# Altium schematic symbol library Resistor.SchLib: 616 symbols (part 3 of 3)
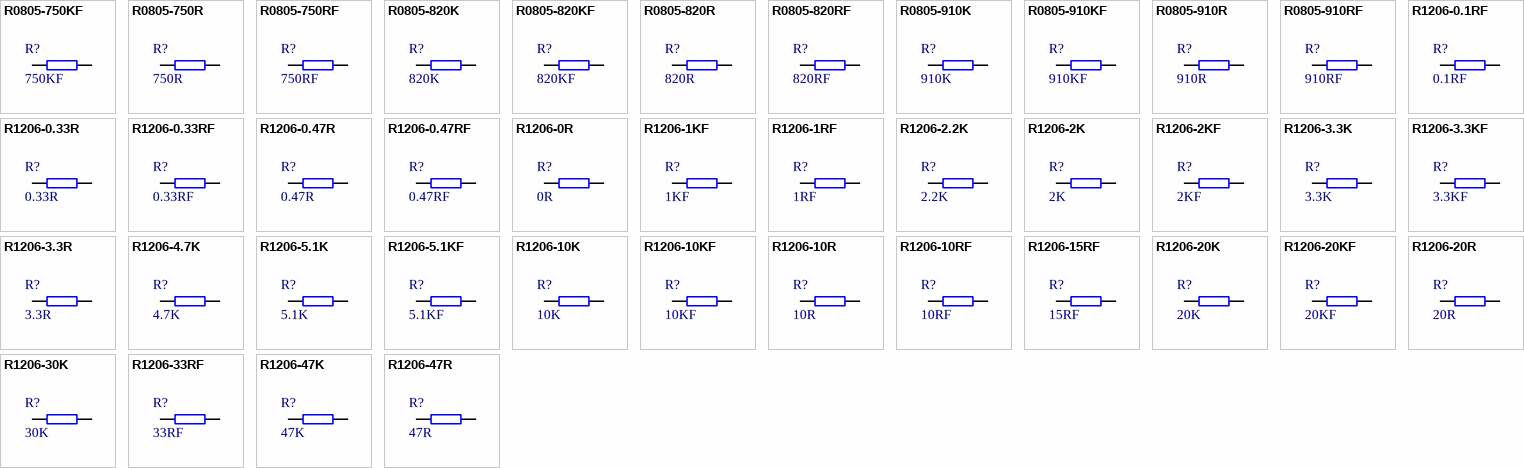
[diagram p17: symbols R0805-750KF to R1206-47R]

## R1206-2.2K
designator R?, comment 2.2K
贴片电阻-通用; 生产商: 厚声 国巨; 规格型号: 2.2K±5%_1/4W_±100ppm_R1206; 货品编码: 311012; 备注: *; 供应商: *
footprint R1206
pins: 1, 2

## R1206-2K
designator R?, comment 2K
贴片电阻-通用; 生产商: 厚声 国巨; 规格型号: 2K±5%_1/4W_±100ppm_R1206; 货品编码: 311061; 备注: *; 供应商: *
footprint R1206
pins: 1, 2

## R1206-2KF
designator R?, comment 2KF
贴片电阻-通用; 生产商: 厚声 国巨; 规格型号: 2K±1%_1/4W_±100ppm_R1206; 货品编码: 311121; 备注: *; 供应商: *
footprint R1206
pins: 1, 2

## R1206-3.3K
designator R?, comment 3.3K
贴片电阻-通用; 生产商: 厚声 国巨; 规格型号: 3.3K±5%_1/4W_±100ppm_R1206; 货品编码: 311118; 备注: *; 供应商: *
footprint R1206
pins: 1, 2

## R1206-3.3KF
designator R?, comment 3.3KF
贴片电阻-通用; 生产商: 厚声 国巨; 规格型号: 3.3K±1%_1/4W_±100ppm_R1206; 货品编码: 311094; 备注: *; 供应商: *
footprint R1206
pins: 1, 2

## R1206-3.3R
designator R?, comment 3.3R
贴片电阻-通用; 生产商: 厚声 国巨; 规格型号: 3.3R±5%_1/4W_±200ppm_R1206; 货品编码: 311119; 备注: *; 供应商: *
footprint R1206
pins: 1, 2

## R1206-4.7K
designator R?, comment 4.7K
贴片电阻-通用; 生产商: 厚声 国巨; 规格型号: 4.7K±5%_1/4W_±100ppm_R1206; 货品编码: 311062; 备注: *; 供应商: *
footprint R1206
pins: 1, 2

## R1206-5.1K
designator R?, comment 5.1K
贴片电阻-通用; 生产商: 厚声 国巨; 规格型号: 5.1K±5%_1/4W_±100ppm_R1206; 货品编码: 311063; 备注: *; 供应商: *
footprint R1206
pins: 1, 2

## R1206-5.1KF
designator R?, comment 5.1KF
贴片电阻-通用; 生产商: 厚声 国巨; 规格型号: 5.1K±1%_1/4W_±100ppm_R1206; 货品编码: 311145; 备注: *; 供应商: *
footprint R1206
pins: 1, 2

## R1206-10K
designator R?, comment 10K
贴片电阻-通用; 生产商: 厚声 国巨; 规格型号: 10K±5%_1/4W_±100ppm_R1206; 货品编码: 311038; 备注: *; 供应商: *
footprint R1206
pins: 1, 2

## R1206-10KF
designator R?, comment 10KF
贴片电阻-通用; 生产商: 厚声 国巨; 规格型号: 10K±1%_1/4W_±100ppm_R1206; 货品编码: 311015; 备注: *; 供应商: *
footprint R1206
pins: 1, 2

## R1206-10R
designator R?, comment 10R
贴片电阻-通用; 生产商: 厚声 国巨; 规格型号: 10R±5%_1/4W_±200ppm_R1206; 货品编码: 311071; 备注: *; 供应商: *
footprint R1206
pins: 1, 2

## R1206-10RF
designator R?, comment 10RF
贴片电阻-通用; 生产商: 厚声 国巨; 规格型号: 10R±1%_1/4W_±200ppm_R1206; 货品编码: 311110; 备注: *; 供应商: *
footprint R1206
pins: 1, 2

## R1206-15RF
designator R?, comment 15RF
贴片电阻-通用; 生产商: 厚声 国巨; 规格型号: 15R±1%_1/4W_±200ppm_R1206; 货品编码: 311106; 备注: *; 供应商: *
footprint R1206
pins: 1, 2

## R1206-20K
designator R?, comment 20K
贴片电阻-通用; 生产商: 厚声 国巨; 规格型号: 20K±5%_1/4W_±100ppm_R1206; 货品编码: 311064; 备注: *; 供应商: *
footprint R1206
pins: 1, 2

## R1206-20KF
designator R?, comment 20KF
贴片电阻-通用; 生产商: 厚声 国巨; 规格型号: 20K±1%_1/4W_±100ppm_R1206; 货品编码: 311065; 备注: *; 供应商: *
footprint R1206
pins: 1, 2

## R1206-20R
designator R?, comment 20R
贴片电阻-通用; 生产商: 厚声 国巨; 规格型号: 20R±5%_1/4W_±100ppm_R1206; 货品编码: 311070; 备注: *; 供应商: *
footprint R1206
pins: 1, 2

## R1206-30K
designator R?, comment 30K
贴片电阻-通用; 生产商: 厚声 国巨; 规格型号: 30K±5%_1/4W_±100ppm_R1206; 货品编码: 311066; 备注: *; 供应商: *
footprint R1206
pins: 1, 2

## R1206-33RF
designator R?, comment 33RF
贴片电阻-通用; 规格型号: 33R±1%_1/4W_±200ppm_R1206; 货品编码: 311148; 生产商: 厚声 国巨; 备注: *; 供应商: *
footprint R1206
pins: 1, 2

## R1206-47K
designator R?, comment 47K
贴片电阻-通用; 生产商: 厚声 国巨; 规格型号: 47K±5%_1/4W_±100ppm_R1206; 货品编码: 311067; 备注: *; 供应商: *
footprint R1206
pins: 1, 2

## R1206-47R
designator R?, comment 47R
贴片电阻-通用; 生产商: 厚声 国巨; 规格型号: 47R±5%_1/4W_±100ppm_R1206; 货品编码: 311072; 备注: *; 供应商: *
footprint R1206
pins: 1, 2

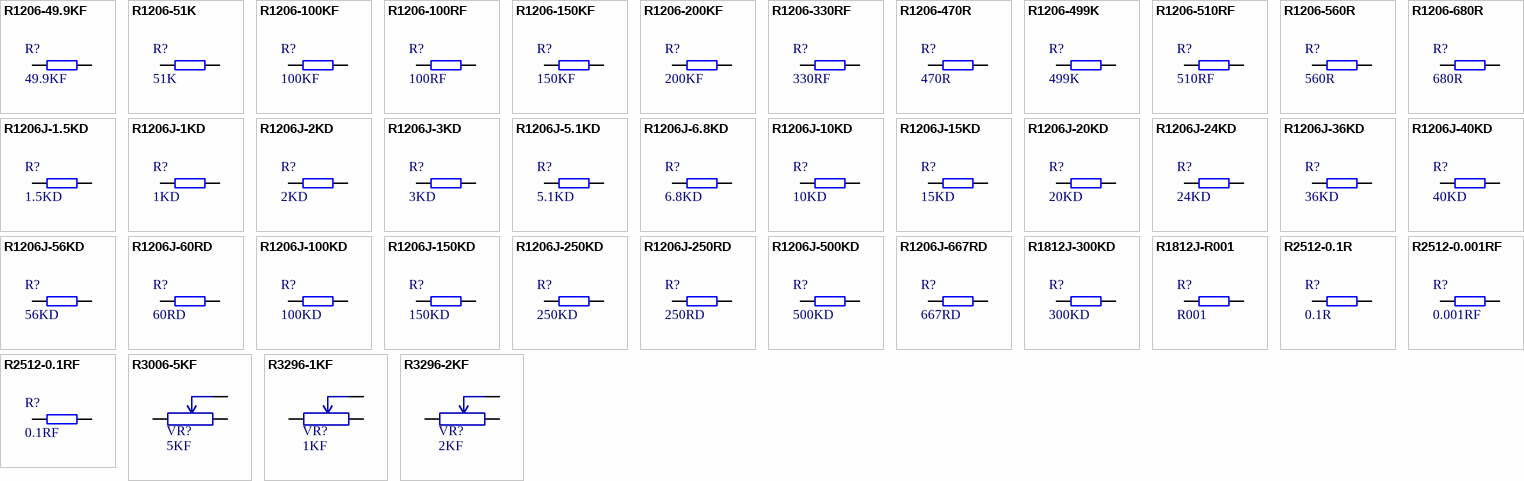
[diagram p14: symbols R1206-49.9KF to R3296-2KF]

## R1206-49.9KF
designator R?, comment 49.9KF
贴片电阻-通用; 生产商: 厚声 国巨; 规格型号: 49.9K±1%_1/4W_±100ppm_R1206; 货品编码: 311034; 备注: *; 供应商: *
footprint R1206
pins: 1, 2

## R1206-51K
designator R?, comment 51K
贴片电阻-通用; 生产商: 厚声 国巨; 规格型号: 51K±5%_1/4W_±100ppm_R1206; 货品编码: 311101; 备注: *; 供应商: *
footprint R1206
pins: 1, 2

## R1206-100KF
designator R?, comment 100KF
贴片电阻-通用; 生产商: 厚声 国巨; 规格型号: 100K±1%_1/4W_±100ppm_R1206; 货品编码: 311117; 备注: *; 供应商: *
footprint R1206
pins: 1, 2

## R1206-100RF
designator R?, comment 100RF
贴片电阻-通用; 生产商: 厚声 国巨; 规格型号: 100R±1%_1/4W_±100ppm_R1206; 货品编码: 311114; 备注: *; 供应商: *
footprint R1206
pins: 1, 2

## R1206-150KF
designator R?, comment 150KF
贴片电阻-通用; 生产商: 厚声 国巨; 规格型号: 150K±1%_1/4W_±100ppm_R1206; 货品编码: 311128; 备注: *; 供应商: *
footprint R1206
pins: 1, 2

## R1206-200KF
designator R?, comment 200KF
贴片电阻-通用; 生产商: 厚声 国巨; 规格型号: 200K±1%_1/4W_±100ppm_R1206; 货品编码: 311113; 备注: *; 供应商: *
footprint R1206
pins: 1, 2

## R1206-330RF
designator R?, comment 330RF
贴片电阻-通用; 生产商: 厚声 国巨; 规格型号: 330R±1%_1/4W_±100ppm_R1206; 货品编码: 311144; 备注: *; 供应商: *
footprint R1206
pins: 1, 2

## R1206-470R
designator R?, comment 470R
贴片电阻-通用; 生产商: 厚声 国巨; 规格型号: 470R±5%_1/4W_±100ppm_R1206; 货品编码: 311073; 备注: *; 供应商: *
footprint R1206
pins: 1, 2

## R1206-499K
designator R?, comment 499K
贴片电阻-通用; 生产商: 厚声 国巨; 规格型号: 499K±5%_1/4W_±100ppm_R1206; 货品编码: 311068; 备注: *; 供应商: *
footprint R1206
pins: 1, 2

## R1206-510RF
designator R?, comment 510RF
贴片电阻-通用; 生产商: 厚声 国巨; 规格型号: 510R±1%_1/4W_±100ppm_R1206; 货品编码: 无样品无编码; 备注: *; 供应商: *
footprint R1206
pins: 1, 2

## R1206-560R
designator R?, comment 560R
贴片电阻-通用; 生产商: 厚声 国巨; 规格型号: 560R±5%_1/4W_±100ppm_R1206; 货品编码: 311074; 备注: *; 供应商: *
footprint R1206
pins: 1, 2

## R1206-680R
designator R?, comment 680R
贴片电阻-通用; 生产商: 厚声 国巨; 规格型号: 680R±5%_1/4W_±100ppm_R1206; 货品编码: 311007; 备注: *; 供应商: *
footprint R1206
pins: 1, 2

## R1206J-1.5KD
designator R?, comment 1.5KD
贴片电阻-晶圆; 生产商: 厚声 国巨; 规格型号: 1.5K±0.5%_1/4W_±100ppm_R1206; 货品编码: 311082; 备注: *; 供应商: *
footprint R1206
pins: 1, 2

## R1206J-1KD
designator R?, comment 1KD
贴片电阻-晶圆; 生产商: 厚声  国巨; 规格型号: 1K±0.5%_1/4W_±100ppm_R1206; 货品编码: 311081; 备注: *; 供应商: *
footprint R1206
pins: 1, 2

## R1206J-2KD
designator R?, comment 2KD
贴片电阻-晶圆; 生产商: 厚声 国巨; 规格型号: 2K±0.5%_1/4W_±100ppm_R1206; 货品编码: 311087; 备注: *; 供应商: *
footprint R1206
pins: 1, 2

## R1206J-3KD
designator R?, comment 3KD
贴片电阻-晶圆; 生产商: 厚声 国巨; 规格型号: 3K±0.5%_1/4W_±100ppm_R1206; 货品编码: 311083; 备注: *; 供应商: *
footprint R1206
pins: 1, 2

## R1206J-5.1KD
designator R?, comment 5.1KD
贴片电阻-晶圆; 生产商: 厚声 国巨; 规格型号: 5.1K±0.5%_1/4W_±100ppm_R1206; 货品编码: 311084; 备注: *; 供应商: *
footprint R1206
pins: 1, 2

## R1206J-6.8KD
designator R?, comment 6.8KD
贴片电阻-晶圆; 生产商: 厚声 国巨; 规格型号: 6.8K±0.5%_1/4W_±100ppm_R1206; 货品编码: 311085; 备注: *; 供应商: *
footprint R1206
pins: 1, 2

## R1206J-10KD
designator R?, comment 10KD
贴片电阻-晶圆; 生产商: 厚声 国巨; 规格型号: 10K±0.5%_1/4W_±50ppm_R1206; 货品编码: 311152; 备注: *; 供应商: *
footprint R1206
pins: 1, 2

## R1206J-15KD
designator R?, comment 15KD
贴片电阻-晶圆; 生产商: 厚声 国巨; 规格型号: 15K±0.5%_1/4W_±100ppm_R1206; 货品编码: 311105; 备注: *; 供应商: *
footprint R1206
pins: 1, 2

## R1206J-20KD
designator R?, comment 20KD
贴片电阻-晶圆; 生产商: 厚声 国巨; 规格型号: 20K±0.5%_1/4W_±50ppm_R1206; 货品编码: 311135; 备注: *; 供应商: *
footprint R1206
pins: 1, 2

## R1206J-24KD
designator R?, comment 24KD
贴片电阻-晶圆; 生产商: 厚声 国巨; 规格型号: 24K±0.5%_1/4W_±100ppm_R1206; 货品编码: 311088; 备注: *; 供应商: *
footprint R1206
pins: 1, 2

## R1206J-36KD
designator R?, comment 36KD
贴片电阻-晶圆; 生产商: 厚声 国巨; 规格型号: 36K±0.5%_1/4W_±100ppm_R1206; 货品编码: 311089; 备注: *; 供应商: *
footprint R1206
pins: 1, 2

## R1206J-40KD
designator R?, comment 40KD
贴片电阻-晶圆; 生产商: 厚声 国巨; 规格型号: 40K±0.5%_1/4W_±100ppm_R1206; 货品编码: 312117; 备注: *; 供应商: *
footprint R1206
pins: 1, 2

## R1206J-56KD
designator R?, comment 56KD
贴片电阻-晶圆; 生产商: 厚声 国巨; 规格型号: 56K±0.5%_1/4W_±50ppm_R1206; 货品编码: 311090; 备注: *; 供应商: *
footprint R1206
pins: 1, 2

## R1206J-60RD
designator R?, comment 60RD
贴片电阻-晶圆; 生产商: 厚声 国巨; 规格型号: 60R±0.5%_1/4W_±50ppm_R1206; 货品编码: 311104; 备注: *; 供应商: *
footprint R1206
pins: 1, 2

## R1206J-100KD
designator R?, comment 100KD
贴片电阻-晶圆; 生产商: 厚声 国巨; 规格型号: 100K±0.5%_1/4W_±100ppm_R1206; 货品编码: 311091; 备注: *; 供应商: *
footprint R1206
pins: 1, 2

## R1206J-150KD
designator R?, comment 150KD
贴片电阻-晶圆; 生产商: 厚声 国巨; 规格型号: 150K±0.5%_1/4W_±100ppm_R1206; 货品编码: 311102; 备注: *; 供应商: *
footprint R1206
pins: 1, 2

## R1206J-250KD
designator R?, comment 250KD
贴片电阻-晶圆; 生产商: 厚声 国巨; 规格型号: 250K±0.5%_1/4W_±100ppm_R1206; 货品编码: 无样品无编码; 备注: *; 供应商: *
footprint R1206
pins: 1, 2

## R1206J-250RD
designator R?, comment 250RD
贴片电阻-晶圆; 生产商: 厚声 国巨; 规格型号: 250R±0.5%_1/4W_±100ppm_R1206; 货品编码: 无样品无编码; 备注: *; 供应商: *
footprint R1206
pins: 1, 2

## R1206J-500KD
designator R?, comment 500KD
贴片电阻-晶圆; 生产商: 厚声 国巨; 规格型号: 500K±0.5%_1/4W_±100ppm_R1206; 货品编码: 311150; 备注: *; 供应商: *
footprint R1206
pins: 1, 2

## R1206J-667RD
designator R?, comment 667RD
贴片电阻-晶圆; 生产商: 厚声 国巨; 规格型号: 667R±0.5%_1/4W_±100ppm_R1206; 货品编码: 311080; 备注: *; 供应商: *
footprint R1206
pins: 1, 2

## R1812J-300KD
designator R?, comment 300KD
贴片电阻-晶圆; 生产商: 厚声 国巨; 规格型号: 300K±0.5%_1/4W_±100ppm_R1812; 货品编码: 312118; 备注: *; 供应商: *
footprint R1812 (Footprint not found)
pins: 1, 2

## R1812J-R001
designator R?, comment R001
贴片电阻-通用; 生产商: 厚声 国巨; 规格型号: 0.001R±0.5%_1/2W_±100ppm_R1812; 货品编码: 无样品无编码; 备注: *; 供应商: *
footprint R1812 (Footprint not found)
pins: 1, 2

## R2512-0.1R
designator R?, comment 0.1R
贴片电阻-通用; 生产商: 厚声 国巨; 规格型号: 0.1R±5%_1W_±200ppm_R2512; 货品编码: 311077; 备注: *; 供应商: *
footprint R2512
pins: 1, 2

## R2512-0.001RF
designator R?, comment 0.001RF
贴片电阻-通用; 生产商: 厚声 国巨; 规格型号: 0.001R±1%_1W_±200ppm_R2512; 货品编码: 311151; 备注: *; 供应商: *
footprint R2512
pins: 1, 2

## R2512-0.1RF
designator R?, comment 0.1RF
贴片电阻-通用; 生产商: 厚声 国巨; 规格型号: 0.1R±1%_1W_±200ppm_R2512; 货品编码: 无样品无编码; 备注: *; 供应商: *
footprint R2512
pins: 1, 2

## R3006-5KF
designator VR?, comment 5KF
精密可调电位器; 备注: 管装; 货品编码: 无样品无编码; 规格型号: 5K±1%_VR3006; 生产商: 风华 厚声
footprint VR3006
pins: 1, 2, 3

## R3296-1KF
designator VR?, comment 1KF
精密可调电位器; 备注: 管装; 货品编码: 352001; 规格型号: 1K±1%_VR3296W; 生产商: 风华 厚声
footprint VR3296W
pins: 1, 2, 3

## R3296-2KF
designator VR?, comment 2KF
精密可调电位器; 备注: 管装; 货品编码: 352007; 规格型号: 2K±1%_VR3296W; 生产商: 风华 厚声
footprint VR3296W
pins: 1, 2, 3

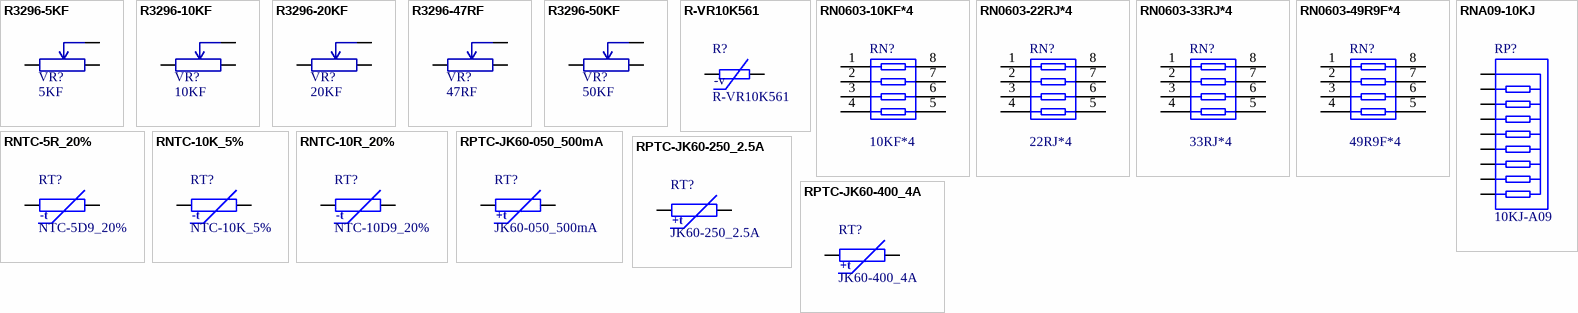
[diagram p15: symbols R3296-5KF to RPTC-JK60-400_4A]

## R3296-5KF
designator VR?, comment 5KF
精密可调电位器; 备注: 管装; 货品编码: 352002; 规格型号: 5K±1%_VR3296W; 生产商: 风华 厚声
footprint VR3296W
pins: 1, 2, 3

## R3296-10KF
designator VR?, comment 10KF
精密可调电位器; 备注: 管装; 货品编码: 352003; 规格型号: 10K±1%_VR3296W; 生产商: 风华 厚声
footprint VR3296W
pins: 1, 2, 3

## R3296-20KF
designator VR?, comment 20KF
精密可调电位器; 备注: 管装; 货品编码: 352004; 规格型号: 20K±1%_VR3296W; 生产商: 风华 厚声
footprint VR3296W
pins: 1, 2, 3

## R3296-47RF
designator VR?, comment 47RF
精密可调电位器; 备注: 管装; 货品编码: 352006; 规格型号: 47R±1%_VR3296W; 生产商: 风华 厚声
footprint VR3296W
pins: 1, 2, 3

## R3296-50KF
designator VR?, comment 50KF
精密可调电位器; 备注: 管装; 货品编码: 352005; 规格型号: 50K±1%_VR3296W; 生产商: 风华 厚声
footprint VR3296W
pins: 1, 2, 3

## R-VR10K561
designator R?
插件电阻-压敏; 货品编码: 312182; 供应商: *; 规格型号: *
footprint R-RAD0.3-11.43x3.81
footprint R-RAD0.3-11.43X3.81 (RAD0.3)
pins: 1, 2
text: -v

## RN0603-10KF*4
designator RN?, comment 10KF*4
贴片排阻0603; 规格型号: 10KF*4_RN0603-8P4R; 货品编码: 无样品无编码; 生产商: 风华; 供应商: *; 备注: *
footprint RN0603-8P4R (Footprint not found)
pins: 1, 2, 3, 4, 5, 6, 7, 8

## RN0603-22RJ*4
designator RN?, comment 22RJ*4
贴片排阻0603; 规格型号: 22RJ*4_RN0603-8P4R; 货品编码: 无样品无编码; 生产商: 风华; 供应商: *; 备注: *
footprint RN0603-8P4R (Footprint not found)
pins: 1, 2, 3, 4, 5, 6, 7, 8

## RN0603-33RJ*4
designator RN?, comment 33RJ*4
贴片排阻0603; 规格型号: 33RJ*4_RN0603-8P4R; 生产商: 风华; 货品编码: 无样品无编码; 供应商: *; 备注: *
footprint RN0603-8P4R (Footprint not found)
pins: 1, 2, 3, 4, 5, 6, 7, 8

## RN0603-49R9F*4
designator RN?, comment 49R9F*4
贴片排阻0603; 规格型号: 49R9F*4_RN0603-8P4R; 生产商: 风华; 货品编码: 无样品无编码; 供应商: *; 备注: *
footprint RN0603-8P4R (Footprint not found)
pins: 1, 2, 3, 4, 5, 6, 7, 8

## RNA09-10KJ
designator RP?, comment 10KJ-A09
插件电阻-排阻; 生产商: 厚声 国巨; 规格型号: 10K±5%_1/8W_±200ppm_SIPA09; 货品编码: 312079; 备注: *
footprint R-SIPA09 (Footprint not found)
pins: 1, 2, 3, 4, 5, 6, 7, 8, 9

## RNTC-5R_20%
designator RT?, comment NTC-5D9_20%
插件电阻-热敏; 规格型号: 5R±20%_D-10.5mm_3A_NTC-D9; 货品编码: 312078; 供应商: *; 备注: *
footprint R-NTC-D9 (Footprint not found)
pins: 1, 2
text: -t

## RNTC-10K_5%
designator RT?, comment NTC-10K_5%
插件电阻-热敏; 规格型号: 10K±5%_MF52A_NTC-10K; 货品编码: 312077; 供应商: *; 备注: *
footprint R-NTC-10K (Footprint not found)
pins: 1, 2
text: -t

## RNTC-10R_20%
designator RT?, comment NTC-10D9_20%
插件电阻-热敏; 规格型号: 10R±20%_D-10.5mm_2A_NTC-D9; 货品编码: 312076; 供应商: *; 备注: *
footprint R-NTC-D9 (Footprint not found)
pins: 1, 2
text: -t

## RPTC-JK60-050_500mA
designator RT?, comment JK60-050_500mA
插件电阻-热敏; 规格型号: JK60-050_Vmax60V_Imax500mA_PTC-JK60-050; 货品编码: 无样品无编码; 生产商: *; 供应商: *; 备注: *
footprint R-PTC-JK60-050 (Footprint not found)
pins: 1, 2
text: +t

## RPTC-JK60-250_2.5A
designator RT?, comment JK60-250_2.5A
插件电阻-热敏; 规格型号: JK60-250_Vmax60V_Imax2.5A_PTC-JK60-250; 货品编码: 312075; 生产商: *; 供应商: *; 备注: *
footprint R-PTC-JK60-250 (Footprint not found)
pins: 1, 2
text: +t

## RPTC-JK60-400_4A
designator RT?, comment JK60-400_4A
插件电阻-热敏; 规格型号: JK60-400_Vmax60V_Imax4A; 货品编码: 312089; 生产商: *; 供应商: *; 备注: *
footprint R-PTC-JK60-4A
pins: 1, 2
text: +t